# Altium footprint library IC.PcbLib: 99 footprints (part 4 of 7)
Each footprint in its own frame and in the unit in brackets; x right, y up, seen from the top. Pads: shape width x height; smd on the part's side, far side on the other; paste and mask are expansions set on the pad; w line width, h text height; cw(c..) or ccw(c..) is an arc to the next point about the centre after c.
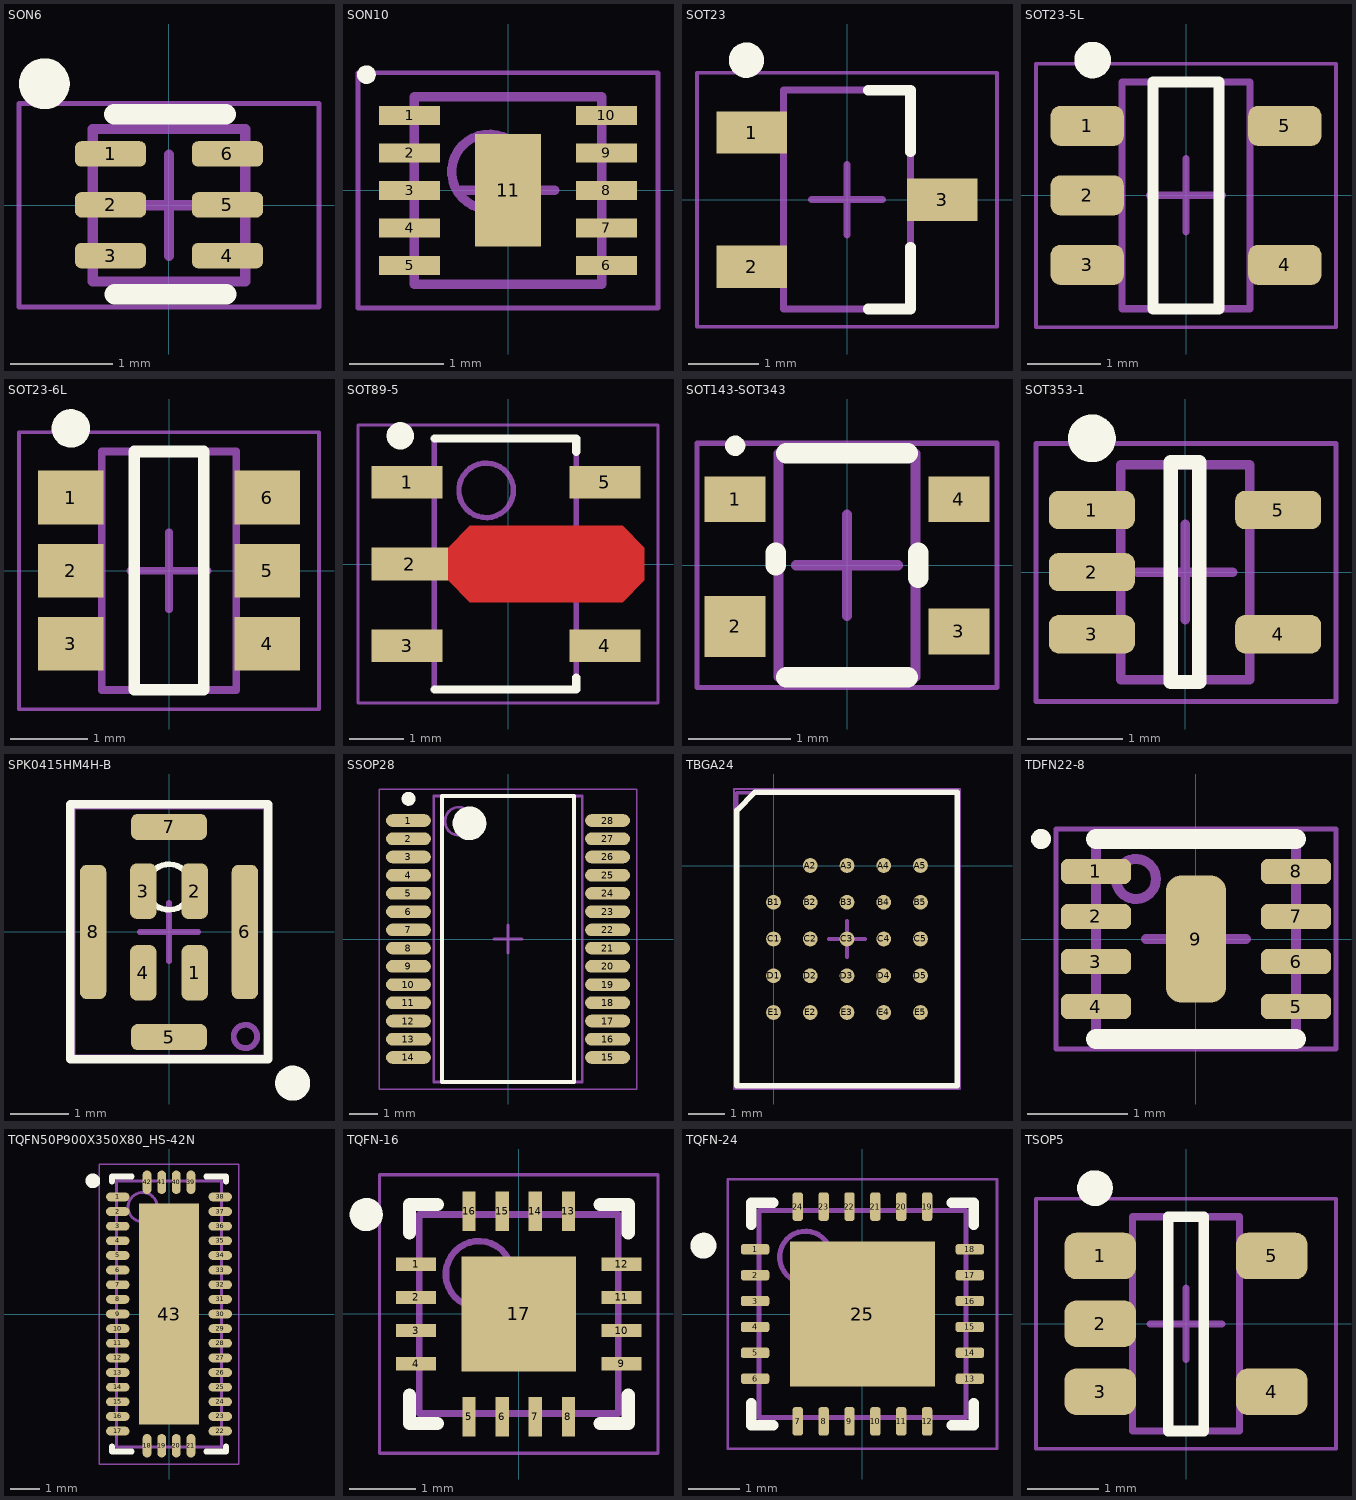
[diagram p3: the footprints below, top view; thin cyan lines are the x and y axes]

## SON6 [mm] "SON6"
height 0.8
pads (6):
  rrect50% 0.7x0.25 smd mask+0.07: 1(-0.575,0.505) 2(-0.575,0.005) 3(-0.575,-0.495) 4(0.575,-0.495) 5(0.575,0.005) 6(0.575,0.505)
Top Overlay:
  circle w0.25: c-1.225,1.195 r0.125
  lines w0.2: -0.54,0.895 0.56,0.895 ; -0.535,-0.875 0.565,-0.875
Mechanical 13:
  lines w0.1: -0.75,-0.75 -0.75,0.75 0.75,0.75 0.75,-0.75 -0.75,-0.75
Mechanical 15:
  lines w0.05: -1.475,-1 -1.475,1 1.475,1 1.475,-1 -1.475,-1
  lines w0.1: -0.5,0 0.5,0 ; 0,-0.5 0,0.5
3D body: height 0.8, standoff 0.2, extent -0.75,-0.75 0.75,0.75

## SON10 [mm]
height 0.8
pads (11):
  rect 0.65x0.2 smd mask+0.05: 1(-1.05,0.8) 2(-1.05,0.4) 3(-1.05,0) 4(-1.05,-0.4) 5(-1.05,-0.8) 6(1.05,-0.8) 7(1.05,-0.4) 8(1.05,0) 9(1.05,0.4) 10(1.05,0.8)
  rect 0.7x1.2 smd mask+0.05: 11(0,0)
Top Overlay:
  circle w0.1: c-1.51,1.235 r0.05
Mechanical 13:
  circle w0.1: c-0.2,0.2 r0.4
  lines w0.1: -1,-1 -1,1 1,1 1,-1 -1,-1
Mechanical 15:
  lines w0.05: -1.6,-1.255 -1.6,1.255 1.6,1.255 1.6,-1.255 -1.6,-1.255
  lines w0.1: -0.5,0 0.5,0 ; 0,-0.5 0,0.5
3D body: height 0.8, standoff 0.05, extent -1,-1 1,1

## SOT23 [mm] "3-Leads, Body 2,90x2,55mm, Pitch 0,95mm, IPC Medium Density"
height 1.45
pads (3):
  rect 1x0.6 smd: 1(-1.35,0.95) 2(-1.35,-0.95) 3(1.35,0)
Top Overlay:
  circle w0.25: c-1.425,1.975 r0.125
  lines w0.15: 0.3,-1.55 0.9,-1.55 0.9,-0.675 ; 0.3,1.55 0.9,1.55 0.9,0.675
Mechanical 13:
  lines w0.1: -0.9,-1.55 -0.9,1.55 0.9,1.55 0.9,-1.55 -0.9,-1.55
Mechanical 15:
  lines w0.05: -2.125,-1.8 -2.125,1.8 2.125,1.8 2.125,-1.8 -2.125,-1.8
  lines w0.1: -0.5,0 0.5,0 ; 0,-0.5 0,0.5
3D body: height 1.45, standoff 0.15, extent -0.9,-1.55 0.9,1.55

## SOT23-5L [mm]
height 1.18
pads (5):
  rrect50% 1x0.55 smd mask+0.07: 1(-1.35,0.95) 2(-1.35,0) 3(-1.35,-0.95) 4(1.35,-0.95) 5(1.35,0.95)
Top Overlay:
  circle w0.25: c-1.275,1.85 r0.125
  lines w0.15: -0.45,-1.55 -0.45,1.55 0.45,1.55 0.45,-1.55 -0.45,-1.55
Mechanical 13:
  lines w0.1: -0.875,-1.55 0.875,-1.55 0.875,1.55 -0.875,1.55 -0.875,-1.55
Mechanical 15:
  lines w0.05: -2.05,-1.8 2.05,-1.8 2.05,1.8 -2.05,1.8 -2.05,-1.8
  lines w0.1: -0.5,0 0.5,0 ; 0,-0.5 0,0.5
3D body: height 1.3, standoff 0, extent -1.52,-1.5 1.48,1.5

## SOT23-6L [mm] "SOT23, 6-Leads, Body 2,95x2,80mm, Pitch 0,95mm, IPC Medium Density"
height 1.18
pads (6):
  rect 0.85x0.7 smd: 1(-1.275,0.95) 2(-1.275,0) 3(-1.275,-0.95) 4(1.275,-0.95) 5(1.275,0) 6(1.275,0.95)
Top Overlay:
  circle w0.25: c-1.275,1.85 r0.125
  lines w0.15: -0.45,-1.55 -0.45,1.55 0.45,1.55 0.45,-1.55 -0.45,-1.55
Mechanical 13:
  lines w0.1: -0.875,-1.55 0.875,-1.55 0.875,1.55 -0.875,1.55 -0.875,-1.55
Mechanical 15:
  lines w0.05: -1.95,-1.8 1.95,-1.8 1.95,1.8 -1.95,1.8 -1.95,-1.8
  lines w0.1: -0.5,0 0.5,0 ; 0,-0.5 0,0.5
3D body: height 1.18, standoff 0.15, extent -0.875,-1.55 0.875,1.55

## SOT89-5 [mm] "SOT89, 5-Leads, Body 4.50x2.45mm, Pitch 1.50mm, Lead Span 4.1mm, IPC Medium Density"
height 1.6
pads (5):
  rect 1.3x0.6 smd: 1(-1.85,1.5) 3(-1.85,-1.5) 4(1.778,-1.499) 5(1.778,1.499)
  rect 1.4x0.6 smd: 2(-1.8,0)
Top Layer:
  region: -1.1,0.3 -0.7,0.7 2.1,0.7 2.5,0.3 2.5,-0.3 2.1,-0.7 -0.7,-0.7 -1.1,-0.3
Top Overlay:
  circle w0.25: c-1.975,2.35 r0.125
  lines w0.15: -1.35,-2.3 1.25,-2.3 1.25,-2.083 ; -1.35,2.3 1.25,2.3 1.25,2.057
Mechanical 13:
  circle w0.1: c-0.4,1.35 r0.5
  lines w0.1: -1.35,-2.3 -1.35,2.3 1.25,2.3 1.25,-2.3 -1.35,-2.3
  text ".Designator" at -1.94,2.761 h0.5
Mechanical 15:
  lines w0.05: -2.75,-2.55 -2.75,2.55 2.75,2.55 2.75,-2.55 -2.75,-2.55
  lines w0.1: -0.55,0 0.45,0 ; -0.05,-0.5 -0.05,0.5
3D body: height 1.6, standoff 0, extent -1.35,-2.3 1.25,2.3

## SOT143-SOT343 [mm] "SOT343, 4-Leads, Body 2,00x2,10mm, Pitch 1,30mm, IPC High Density"
height 1.1
pads (4):
  rect 0.6x0.45 smd: 1(-1.1,0.65) 3(1.1,-0.65) 4(1.1,0.65)
  rect 0.6x0.6 smd: 2(-1.1,-0.6)
Top Overlay:
  circle w0.1: c-1.1,1.175 r0.05
  lines w0.2: -0.7,0 -0.7,0.125 ; -0.6,-1.1 0.6,-1.1 ; -0.6,1.1 0.6,1.1 ; 0.7,-0.125 0.7,0.125
Mechanical 13:
  lines w0.1: -0.675,-1.1 0.675,-1.1 0.675,1.1 -0.675,1.1 -0.675,-1.1
Mechanical 15:
  lines w0.05: -1.475,-1.2 1.475,-1.2 1.475,1.2 -1.475,1.2 -1.475,-1.2
  lines w0.1: -0.5,0 0.5,0 ; 0,-0.5 0,0.5
3D body: height 1.1, standoff 0, extent -0.675,-1.1 0.675,1.1

## SOT353-1 [mm]
height 1.1
pads (5):
  rrect50% 0.9x0.4 smd: 1(-0.975,0.65) 2(-0.975,0) 3(-0.975,-0.65) 4(0.975,-0.65) 5(0.975,0.65)
Top Overlay:
  circle w0.25: c-0.975,1.4 r0.125
  lines w0.15: -0.15,-1.15 0.15,-1.15 0.15,1.15 -0.15,1.15 -0.15,-1.15
Mechanical 13:
  lines w0.1: -0.675,-1.125 -0.675,1.125 0.675,1.125 0.675,-1.125 -0.675,-1.125
Mechanical 15:
  lines w0.05: -1.56,-1.355 -1.56,1.345 1.58,1.345 1.58,-1.355 -1.56,-1.355
  lines w0.1: -0.5,0 0.5,0 ; 0,-0.5 0,0.5
3D body: height 1.1, standoff 0.1, extent -0.675,-1.125 0.675,1.125

## SPK0415HM4H-B [mm] "SPK0415HM4H-B"
height 1.1
pads (8):
  rrect50% 0.45x0.95 smd mask+0.075: 1(0.44,-0.7) 2(0.44,0.7) 3(-0.44,0.7) 4(-0.44,-0.7)
  rrect50% 1.3x0.45 smd mask+0.075: 5(0,-1.8) 7(0,1.8)
  rrect50% 0.45x2.3 smd mask+0.075: 6(1.3,0) 8(-1.3,0)
Top Overlay:
  circle w0.1: c0,0.77 r0.39
  circle w0.4: c2.12,-2.59 r0.1
  lines w0.15: -1.69,-2.18 1.7,-2.18 1.7,2.19 -1.69,2.19 -1.69,-2.18
Mechanical 13:
  circle w0.1: c1.31,-1.79 r0.2
  lines w0.1: -1.65,-2.16 1.66,-2.16 1.66,2.15 -1.65,2.15 -1.65,-2.16
  text ".Designator" at 0.28,1.83 h0.5
Mechanical 15:
  lines w0.05: -1.64,-2.12 1.64,-2.12 1.64,2.14 -1.64,2.14 -1.64,-2.12
  lines w0.1: -0.5,0 0.5,0 ; 0,-0.5 0,0.5
3D body: height 0.97, standoff -0.01, extent -1.87,-2.37 1.89,2.35

## SSOP28 [mm] "28-Leads,  Pitch 0,65mm"
height 1.86
pads (28):
  oval 1.6x0.45 smd mask+0.07: 1(-3.55,4.225) 2(-3.55,3.575) 3(-3.55,2.925) 4(-3.55,2.275) 5(-3.55,1.625) 6(-3.55,0.975) 7(-3.55,0.325) 8(-3.55,-0.325) 9(-3.55,-0.975) 10(-3.55,-1.625) 11(-3.55,-2.275) 12(-3.55,-2.925) 13(-3.55,-3.575) 14(-3.55,-4.225) 15(3.55,-4.225) 16(3.55,-3.575) 17(3.55,-2.925) 18(3.55,-2.275) 19(3.55,-1.625) 20(3.55,-0.975) 21(3.55,-0.325) 22(3.55,0.325) 23(3.55,0.975) 24(3.55,1.625) 25(3.55,2.275) 26(3.55,2.925) 27(3.55,3.575) 28(3.55,4.225)
Top Overlay:
  circle w0.6: c-1.375,4.125 r0.3
  circle w0.25: c-3.55,5 r0.125
  lines w0.15: -2.35,-5.1 2.35,-5.1 2.35,5.1 -2.35,5.1 -2.35,-5.1
Mechanical 13:
  circle w0.1: c-1.75,4.2 r0.5
  lines w0.1: -2.65,-5.1 2.65,-5.1 2.65,5.1 -2.65,5.1 -2.65,-5.1
  text ".Designator" at -2.524,5.504 h0.5
Mechanical 15:
  lines w0.05: -4.6,-5.35 4.6,-5.35 4.6,5.35 -4.6,5.35 -4.6,-5.35
  lines w0.1: -0.5,0 0.5,0 ; 0,-0.5 0,0.5
3D body: height 1.86, standoff 0.13, extent -2.65,-5.1 2.65,5.1

## TBGA24 [mm]
height 1.2
pads (24):
  round 0.4 smd: A2(1,0) A3(2,0) A4(3,0) A5(4,0) B1(0,-1) B2(1,-1) B3(2,-1) B4(3,-1) B5(4,-1) C1(0,-2) C2(1,-2) C3(2,-2) C4(3,-2) C5(4,-2) D1(0,-3) D2(1,-3) D3(2,-3) D4(3,-3) D5(4,-3) E1(0,-4) E2(1,-4) E3(2,-4) E4(3,-4) E5(4,-4)
Top Overlay:
  lines w0.15: -1,-6 5,-6 5,2 -0.5,2 -1,1.5 -1,-6
Mechanical 13:
  lines w0.1: -1.003,-5.994 -1.003,1.981 5.016,1.981 5.016,-5.994 -1.003,-5.994
  text ".Designator" at 0.245,2.494 h0.5
Mechanical 15:
  lines w0.05: -1.079,-6.083 -1.079,2.083 5.08,2.083 5.08,-6.083 -1.079,-6.083
  lines w0.1: 1.5,-2 2.5,-2 ; 2,-2.5 2,-1.5
3D body: height 1.2, standoff 0.2, extent -1.003,-5.994 5.016,1.981

## TDFN22-8 [mm] "TDFN22-8"
height 0.75
pads (9):
  rrect50% 0.7x0.25 smd mask+0.04: 1(-1,0.675) 2(-1,0.225) 3(-1,-0.225) 4(-1,-0.675) 5(1,-0.675) 6(1,-0.225) 7(1,0.225) 8(1,0.675)
  rrect50% 0.6x1.27 smd mask+0.02: 9(0,0)
Top Overlay:
  circle w0.1: c-1.55,1 r0.05
  lines w0.2: -1,-1 1,-1 ; -1,1 1,1
Mechanical 13:
  circle w0.1: c-0.6,0.6 r0.2
  lines w0.1: -1,-1 1,-1 1,1 -1,1 -1,-1
Mechanical 15:
  lines w0.05: -1.4,-1.1 1.4,-1.1 1.4,1.1 -1.4,1.1 -1.4,-1.1
  lines w0.1: -0.5,0 0.5,0 ; 0,-0.5 0,0.5
3D body: height 1, standoff 0, extent -1,-1 1,1

## TQFN50P900X350X80_HS-42N [mm] "TQFN, 42-Leads, Body 9,00x3,50mm, Pitch 0,50mm, Thermal Pad 7,55x2,05mm, IPC Medium Density"
height 0.8
pads (43):
  oval 0.8x0.3 smd mask+0.05: 1(-1.75,4) 2(-1.75,3.5) 3(-1.75,3) 4(-1.75,2.5) 5(-1.75,2) 6(-1.75,1.5) 7(-1.75,1) 8(-1.75,0.5) 9(-1.75,0) 10(-1.75,-0.5) 11(-1.75,-1) 12(-1.75,-1.5) 13(-1.75,-2) 14(-1.75,-2.5) 15(-1.75,-3) 16(-1.75,-3.5) 17(-1.75,-4) 22(1.75,-4) 23(1.75,-3.5) 24(1.75,-3) 25(1.75,-2.5) 26(1.75,-2) 27(1.75,-1.5) 28(1.75,-1) 29(1.75,-0.5) 30(1.75,0) 31(1.75,0.5) 32(1.75,1) 33(1.75,1.5) 34(1.75,2) 35(1.75,2.5) 36(1.75,3) 37(1.75,3.5) 38(1.75,4)
  oval 0.3x0.8 smd mask+0.05: 18(-0.75,-4.5) 19(-0.25,-4.5) 20(0.25,-4.5) 21(0.75,-4.5) 39(0.75,4.5) 40(0.25,4.5) 41(-0.25,4.5) 42(-0.75,4.5)
  rect 2.05x7.55 smd mask+0.05: 43(0,0)
Top Overlay:
  circle w0.25: c-2.6,4.55 r0.125
  lines w0.2: -1.95,-4.525 -1.95,-4.7 -1.275,-4.7 ; -1.95,4.525 -1.95,4.7 -1.275,4.7 ; 1.275,-4.7 1.95,-4.7 1.95,-4.525 ; 1.275,4.7 1.95,4.7 1.95,4.525
Mechanical 13:
  circle w0.1: c-0.9,3.65 r0.5
  lines w0.1: -1.8,-4.55 -1.8,4.55 1.8,4.55 1.8,-4.55 -1.8,-4.55
  text ".Designator" at -1.66,5.224 h0.5
Mechanical 15:
  lines w0.05: -2.375,-5.125 -2.375,5.125 2.375,5.125 2.375,-5.125 -2.375,-5.125
  lines w0.1: -0.5,0 0.5,0 ; 0,-0.5 0,0.5
3D body: height 0.8, standoff 0.02, extent -1.8,-4.55 1.8,4.55

## TQFN-16 [mm]
height 0.75
pads (17):
  rect 0.6x0.2 smd mask+0.1: 1(-1.55,0.75) 2(-1.55,0.25) 3(-1.55,-0.25) 4(-1.55,-0.75) 9(1.55,-0.75) 10(1.55,-0.25) 11(1.55,0.25) 12(1.55,0.75)
  rect 0.2x0.6 smd mask+0.1: 5(-0.75,-1.55) 6(-0.25,-1.55) 7(0.25,-1.55) 8(0.75,-1.55) 13(0.75,1.55) 14(0.25,1.55) 15(-0.25,1.55) 16(-0.75,1.55)
  rect 1.73x1.73 smd: 17(0,0)
Top Overlay:
  circle w0.25: c-2.3,1.5 r0.125
  lines w0.2: -1.65,-1.225 -1.65,-1.65 -1.225,-1.65 ; -1.65,1.225 -1.65,1.65 -1.225,1.65 ; 1.225,-1.65 1.65,-1.65 1.65,-1.225 ; 1.225,1.65 1.65,1.65 1.65,1.225
Mechanical 13:
  circle w0.1: c-0.6,0.6 r0.5
  lines w0.1: -1.5,-1.5 -1.5,1.5 1.5,1.5 1.5,-1.5 -1.5,-1.5
  text ".Designator" at -1.94,2.151 h0.5
Mechanical 15:
  lines w0.05: -2.1,-2.1 -2.1,2.1 2.1,2.1 2.1,-2.1 -2.1,-2.1
  lines w0.1: -0.5,0 0.5,0 ; 0,-0.5 0,0.5
3D body: height 0.75, standoff 0.05, extent -1.5,-1.5 1.5,1.5

## TQFN-24 [mm] "TQFN(4mmx4mm)-24 Package"
height 0.55
pads (25):
  rrect50% 0.55x0.2 smd mask+0.09: 1(-2.075,1.25) 2(-2.075,0.75) 3(-2.075,0.25) 4(-2.075,-0.25) 5(-2.075,-0.75) 6(-2.075,-1.25) 13(2.075,-1.25) 14(2.075,-0.75) 15(2.075,-0.25) 16(2.075,0.25) 17(2.075,0.75) 18(2.075,1.25)
  rrect50% 0.2x0.55 smd mask+0.09: 7(-1.25,-2.075) 8(-0.75,-2.075) 9(-0.25,-2.075) 10(0.25,-2.075) 11(0.75,-2.075) 12(1.25,-2.075) 19(1.25,2.075) 20(0.75,2.075) 21(0.25,2.075) 22(-0.25,2.075) 23(-0.75,2.075) 24(-1.25,2.075)
  rect 2.8x2.8 smd: 25(0,0)
Top Overlay:
  circle w0.25: c-3.071,1.321 r0.125
  lines w0.2: -2.15,-1.725 -2.15,-2.15 -1.725,-2.15 ; -2.15,1.725 -2.15,2.15 -1.725,2.15 ; 1.725,-2.15 2.15,-2.15 2.15,-1.725 ; 1.725,2.15 2.15,2.15 2.15,1.725
Mechanical 13:
  circle w0.1: c-1.1,1.1 r0.5
  lines w0.1: -2,-2 2,-2 2,2 -2,2 -2,-2
  text ".Designator" at -1.889,2.684 h0.5
Mechanical 15:
  lines w0.05: -2.6,-2.6 2.6,-2.6 2.6,2.6 -2.6,2.6 -2.6,-2.6
  lines w0.1: -0.5,0 0.5,0 ; 0,-0.5 0,0.5
3D body: height 0.55, standoff 0.03, extent -2,-2 2,2

## TSOP5 [mm]
height 1
pads (5):
  rrect50% 1x0.65 smd mask+0.1: 1(-1.2,0.95) 2(-1.2,0) 3(-1.2,-0.95) 4(1.2,-0.95) 5(1.2,0.95)
Top Overlay:
  circle w0.25: c-1.275,1.9 r0.125
  lines w0.15: -0.25,-1.5 0.25,-1.5 0.25,1.5 -0.25,1.5 -0.25,-1.5
Mechanical 13:
  lines w0.1: -0.75,-1.5 0.75,-1.5 0.75,1.5 -0.75,1.5 -0.75,-1.5
Mechanical 15:
  lines w0.05: -2.1,-1.75 2.1,-1.75 2.1,1.75 -2.1,1.75 -2.1,-1.75
  lines w0.1: -0.5,0 0.5,0 ; 0,-0.5 0,0.5
3D body: height 1, standoff 0.1, extent -0.75,-1.5 0.75,1.5